# EAGLE library part HOR-002881 (library led-seg)
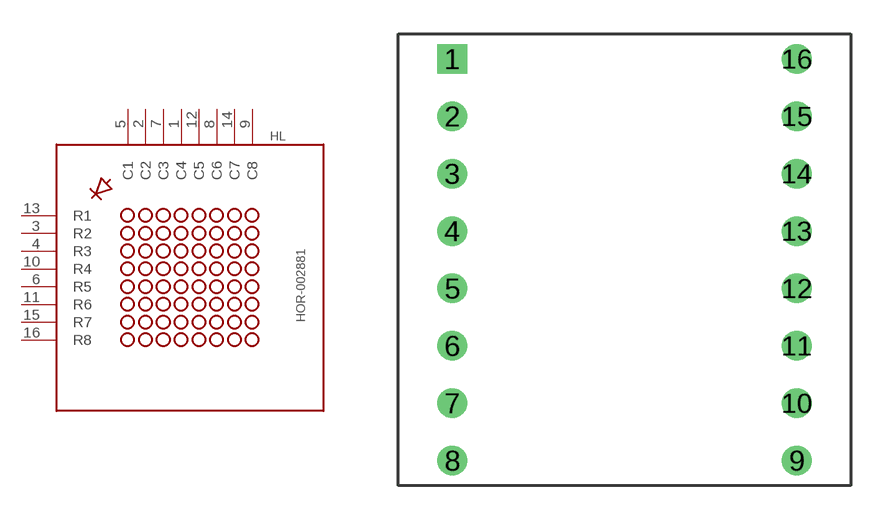
[diagram p10: symbol with the pads of 8X8_20MM; footprint 8X8_20MM]

Designator prefix HL

## HOR-002881  [8X8_20MM]
1  C4  in
2  C2  in
3  R2  in
4  R3  in
5  C1  in
6  R5  in
7  C3  in
8  C6  in
9  C8  in
10  R4  in
11  R6  in
12  C5  in
13  R1  in
14  C7  in
15  R7  in
16  R8  in

## Footprint 8X8_20MM (pad centres in mm)
drill 0.8 square: 1 -7.62,8.89
drill 0.8: 2 -7.62,6.35; 3 -7.62,3.81; 4 -7.62,1.27; 5 -7.62,-1.27; 6 -7.62,-3.81; 7 -7.62,-6.35; 8 -7.62,-8.89; 9 7.62,-8.89; 10 7.62,-6.35; 11 7.62,-3.81; 12 7.62,-1.27; 13 7.62,1.27; 14 7.62,3.81; 15 7.62,6.35; 16 7.62,8.89